# Altium footprint library edition1.PcbLib: 14 footprints
Each footprint in its own frame and in the unit in brackets; x right, y up, seen from the top. Pads: shape width x height; smd on the part's side, far side on the other; paste and mask are expansions set on the pad; w line width, h text height; cw(c..) or ccw(c..) is an arc to the next point about the centre after c.
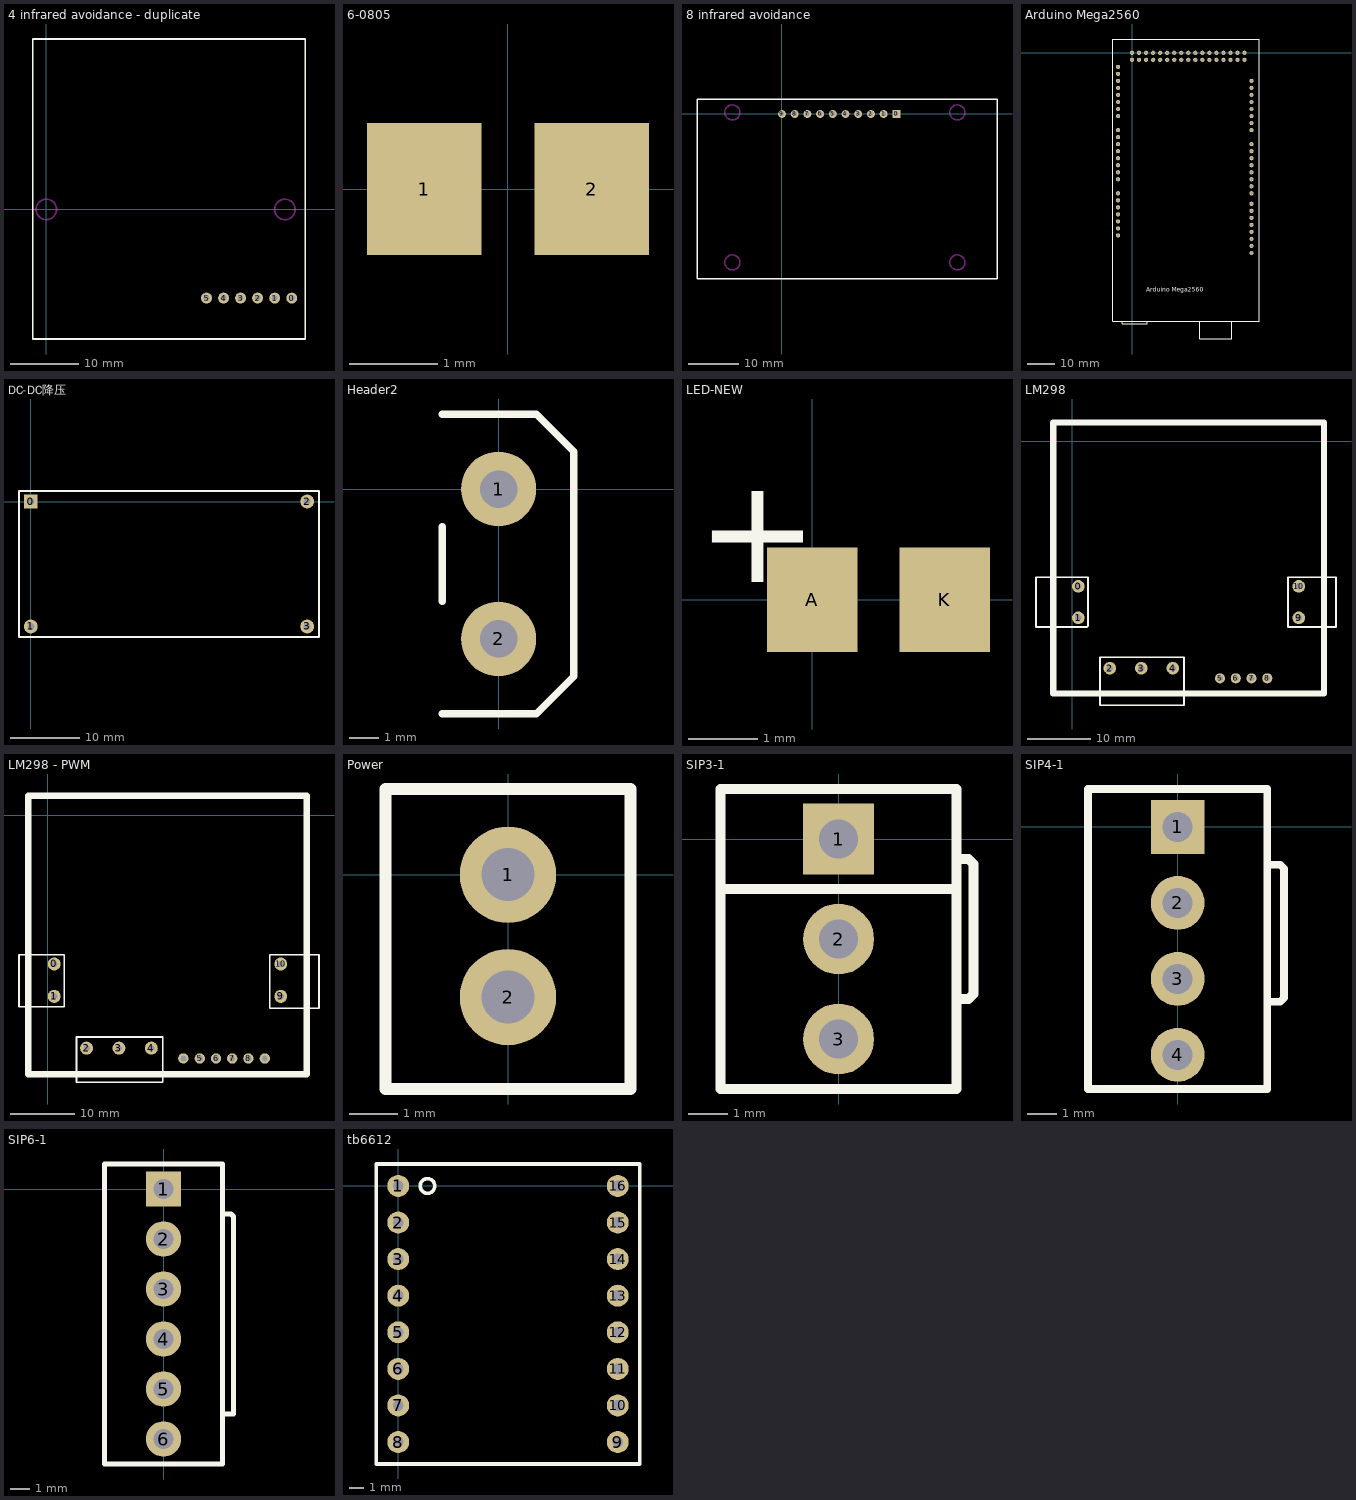
[diagram p0: the footprints below, top view; thin cyan lines are the x and y axes]

## 4 infrared avoidance - duplicate [mm]
pads (6):
  round 1.6 hole 0.9: 0(36,-13) 1(33.5,-13) 2(31,-13) 3(28.5,-13) 4(26,-13) 5(23.5,-13)
Top Layer:
  text "4 Infrared Avoidance" at 0.381,19.685 h1.52
Top Overlay:
  lines w0.254: -2,-19 38,-19 38,25 -2,25 -2,-19
Keep-Out Layer:
  circle w0.254: c0,0 r1.5
  circle w0.254: c35,0 r1.5

## 6-0805 [mm] "Chip Resistor; Body 2.0 x 1.3 mm (LxW typ)"
height 0.65
pads (2):
  rect 1.3x1.5 smd: 1(-0.95,0) 2(0.95,0)

## 8 infrared avoidance [mm]
pads (10):
  rect 1.6x1.6 hole 0.9: 0(22.86,0)
  round 1.6 hole 0.9: 1(20.32,0) 2(17.78,0) 3(15.24,0) 4(12.7,0) 5(10.16,0) 6(7.62,0) 7(5.08,0) 8(2.54,0) 9(0,0)
Top Layer:
  text "8 Infrared Avoidance" at -5.119,-11.315 h1.52
Top Overlay:
  lines w0.254: -17,-33 43,-33 43,3 -17,3 -17,-33
Keep-Out Layer:
  circle w0.254: c35.06,-29.688 r1.5
  circle w0.254: c-9.94,-29.688 r1.5
  circle w0.254: c35.06,0.312 r1.5
  circle w0.254: c-9.94,0.312 r1.5

## Arduino Mega2560 [mil]
pads (81):
  round 60 hole 30: 0(1700,-1300) 1(1700,-1400) 2(1700,-1500) 3(1700,-1600) 4(1700,-1700) 5(1700,-1800) 6(1700,-1900) 7(1700,-2000) 8(1700,-2150) 9(1700,-2250) 10(1700,-2350) 11(1700,-2450) 12(1700,-2550) 13(1700,-2650) 14(1700,-1100) 15(1700,-1000) 16(1700,-900) 17(1700,-800) 18(1700,-700) 19(1700,-600) 20(1700,-500) 21(1700,-400) 22(1600,-100) 23(1600,0) 24(1500,-100) 25(1500,0) 26(1400,-100) 27(1400,0) 28(1300,-100) 29(1300,0) 30(1200,-100) 31(1200,0) 32(1100,-100) 33(1100,0) 34(1000,-100) 35(1000,0) 36(900,-100) 37(900,0) 38(800,-100) 39(800,0) 40(700,-100) 41(700,0) 42(600,-100) 43(600,0) 44(500,-100) 45(500,0) 46(400,-100) 47(400,0) 48(300,-100) 49(300,0) 50(200,-100) 51(200,0) 52(100,-100) 53(100,0) 54(0,-100) 55(0,0) 56(-200,-200) 57(-200,-300) 58(-200,-400) 59(-200,-500) 60(-200,-600) 61(-200,-700) 62(-200,-800) 63(-200,-900) 64(-200,-1100) 65(-200,-1200) 66(-200,-1300) 67(-200,-1400) 68(-200,-1500) 69(-200,-1600) 70(-200,-1700) 71(-200,-1800) 72(-200,-2000) 73(-200,-2100) 74(-200,-2200) 75(-200,-2300) 76(-200,-2400) 77(-200,-2500) 78(-200,-2600) 79(1700,-2750) 80(1700,-2850)
Top Overlay:
  lines w10: -137.8,-3818.9 -137.8,-3858.27 216.54,-3858.27 216.54,-3818.9 ; 964.57,-3818.9 964.57,-4074.8 1417.32,-4074.8 1417.32,-3818.9 ; -275.59,-3818.9 1811.02,-3818.9 1811.02,196.85 -275.59,196.85 -275.59,-3818.9
  text "Arduino Mega2560" at 200,-3400 h60

## DC-DC降压 [mm]
pads (4):
  rect 2x2 hole 1: 0(0,0)
  round 2 hole 1: 1(0,-18) 2(39.8,0) 3(39.8,-18)
Top Layer:
  text "DC-DC" at 4.699,-2.413 h1.52
Top Overlay:
  lines w0.254: -1.7,-19.5 -1.7,1.5 41.5,1.5 41.5,-19.5 -1.7,-19.5

## Header2 [mil]
pads (2):
  round 100 hole 50: 1(0,0) 2(0,-200)
Top Overlay:
  lines w10: -75,-300 50,-300 100,-250 100,50 50,100 -75,100 ; -75,-150 -75,-50

## LED-NEW [mm]
height 0.6
pads (2):
  rect 1.3x1.5 smd: A(0,0) K(1.9,0)
Top Overlay:
  text "+" at -1.651,0.254 h1.52

## LM298 [mm]
pads (11):
  round 2 hole 1: 0(1,-23) 1(1,-28) 2(6,-36) 3(11,-36) 4(16,-36) 9(36,-28) 10(36,-23)
  round 1.6 hole 0.9: 5(23.5,-37.6) 6(26,-37.6) 7(28.5,-37.6) 8(31,-37.6)
via 6,-36 diameter 1.27 hole 0.711
Top Layer:
  text "LM298" at 9.525,-4.953 h1.52
Top Overlay:
  lines w0.254: -5.715,-29.464 2.413,-29.464 2.54,-29.337 2.54,-21.59 -5.715,-21.59 -5.715,-29.464 ; 4.445,-41.91 17.78,-41.91 17.78,-34.29 4.445,-34.29 4.445,-41.91 ; 34.29,-29.464 41.91,-29.464 41.91,-21.59 34.29,-21.59 34.29,-29.464
  lines w1: -3,-40 -3,3 40,3 40,-40 -3,-40

## LM298 - PWM [mm]
pads (13):
  round 2 hole 1: 0(1,-23) 1(1,-28) 2(6,-36) 3(11,-36) 4(16,-36) 9(36,-28) 10(36,-23)
  round 1.6 hole 0.9: 5(23.5,-37.6) 6(26,-37.6) 7(28.5,-37.6) 8(31,-37.6) ENA(20.955,-37.592) ENB(33.54,-37.6)
Top Layer:
  text "LM298" at 9.525,-4.953 h1.52
Top Overlay:
  lines w0.254: -4.445,-29.591 2.54,-29.591 2.54,-21.59 -4.445,-21.59 -4.445,-29.591 ; 4.445,-41.275 17.78,-41.275 17.78,-34.29 4.445,-34.29 4.445,-41.275 ; 34.29,-29.845 34.29,-21.59 41.91,-21.59 41.91,-29.845 34.29,-29.845
  lines w1: -3,-40 40,-40 40,3 -3,3 -3,-40

## Power [mm]
pads (2):
  round 2 hole 1.1 square: 1(0,0) 2(0,-2.54)
Top Overlay:
  lines w0.254: -2.54,-4.445 -2.54,1.778 -2.032,1.778 2.54,1.778 2.54,-4.445 -2.54,-4.445

## SIP3-1 [mm]
height 0.6
pads (3):
  rect 1.8x1.8 hole 1: 1(0,0)
  round 1.8 hole 1: 2(0,-2.54) 3(0,-5.08)
Top Overlay:
  lines w0.254: -3,-1.27 3,-1.27 ; 3,-4.064 3.302,-4.064 3.429,-3.937 3.429,-0.635 3.302,-0.508 3,-0.508 ; -3,-6.35 -3,1.27 3,1.27 3,-6.35 -3,-6.35

## SIP4-1 [mm]
height 0.6
pads (4):
  rect 1.8x1.8 hole 1: 1(0,0)
  round 1.8 hole 1: 2(0,-2.54) 3(0,-5.08) 4(0,-7.62)
Top Overlay:
  lines w0.254: -3,-3.81 -3,1.27 3,1.27 3,-3.81 ; -3,-3.683 -3,-8.763 3,-8.763 3,-3.683 ; 3.048,-5.842 3.429,-5.842 3.556,-5.715 3.556,-1.397 3.429,-1.27 3.048,-1.27

## SIP6-1 [mm]
height 0.6
pads (6):
  rect 1.8x1.8 hole 1: 1(0,0)
  round 1.8 hole 1: 2(0,-2.54) 3(0,-5.08) 4(0,-7.62) 5(0,-10.16) 6(0,-12.7)
Top Overlay:
  lines w0.254: -3,-3.81 -3,1.27 3,1.27 3,-3.81 ; -3,-3.683 -3,-13.97 3,-13.97 3,-3.683 ; 3.048,-1.27 3.429,-1.27 3.556,-1.397 3.556,-11.43 3.127,-11.43

## tb6612 [mil]
pads (16):
  round 60 hole 30: 1(0,0) 2(0,-100) 3(0,-200) 4(0,-300) 5(0,-400) 6(0,-500) 7(0,-600) 8(0,-700) 9(600,-700) 10(600,-600) 11(600,-500) 12(600,-400) 13(600,-300) 14(600,-200) 15(600,-100) 16(600,0)
Top Overlay:
  circle w10: c80,0 r20
  lines w10: -60,-760 -60,60 660,60 660,-760 -60,-760